# Altium schematic symbol library SN74AVCxTx45.SchLib: 4 symbols
Pins are listed as number, name and electrical type; pins without a type are passive.

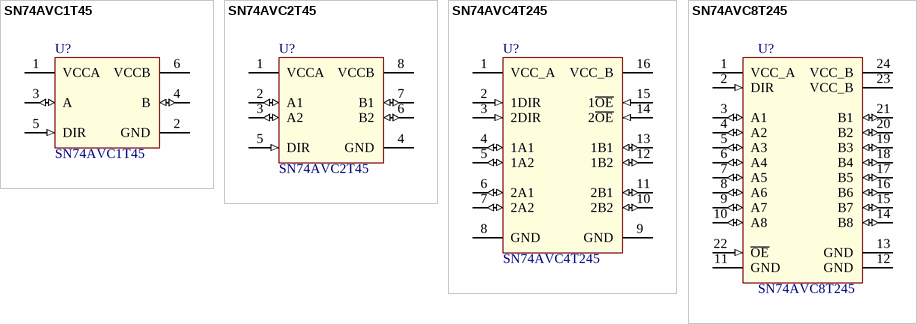
[diagram p0: symbols SN74AVC1T45 to SN74AVC8T245]

## SN74AVC1T45
designator U?
SN74AVC4T245 Dual-Bit Bus Transceiver with Configurable Voltage Translation and 3-State Outputs; value: SN74AVC1T45
footprint SOT-23-6 (SOT23, 6-Leads, Body 2.9x1.6mm, Pitch 0.95mm, Lead Span 2.8mm, IPC Medium Density)
pins: 1 VCCA (power), 2 GND (power), 3 A (io), 4 B (io), 5 DIR (in), 6 VCCB (power)

## SN74AVC2T45
designator U?
SN74AVC4T245 Dual-Bit Bus Transceiver with Configurable Voltage Translation and 3-State Outputs; value: SN74AVC2T45
footprint TSSOP-8 (Shrink Small Outline; 8 Leads; Body Width 4.4 mm; Pitch 0.65 mm)
pins: 1 VCCA (power), 2 A1 (io), 3 A2 (io), 4 GND (power), 5 DIR (in), 6 B2 (io), 7 B1 (io), 8 VCCB (power)

## SN74AVC4T245
designator U?
SN74AVC4T245 Dual-Bit Bus Transceiver with Configurable Voltage Translation and 3-State Outputs; value: SN74AVC4T245
footprint TSSOP-16 (Shrink Small Outline; 16 Leads; Body Width 4.4 mm; Pitch 0.65 mm)
pins: 1 VCC_A (power), 2 1DIR (in), 3 2DIR (in), 4 1A1 (io), 5 1A2 (io), 6 2A1 (io), 7 2A2 (io), 8 GND (power), 9 GND (power), 10 2B2 (io), 11 2B1 (io), 12 1B2 (io), 13 1B1 (io), 14 2~{OE} (in), 15 1~{OE} (in), 16 VCC_B (power)

## SN74AVC8T245
designator U?
SN74AVC8T245 8-Bit Dual-Supply Bus Transceiver With Configurable Voltage Translation  and 3-State Outputs; value: SN74AVC8T245
footprint TSSOP-24 (Shrink Small Outline; 24 Leads; Body Width 4.4 mm; Pitch 0.65 mm)
pins: 1 VCC_A (power), 2 DIR (in), 3 A1 (io), 4 A2 (io), 5 A3 (io), 6 A4 (io), 7 A5 (io), 8 A6 (io), 9 A7 (io), 10 A8 (io), 11 GND (power), 12 GND (power), 13 GND (power), 14 B8 (io), 15 B7 (io), 16 B6 (io), 17 B5 (io), 18 B4 (io), 19 B3 (io), 20 B2 (io), 21 B1 (io), 22 ~{OE} (in), 23 VCC_B (power), 24 VCC_B (power)